# Altium schematic symbol library JUMPER_2PIN.SchLib: 1 symbol
Pins are listed as number, name and electrical type; pins without a type are passive.

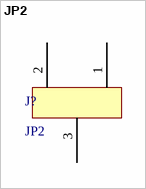
[diagram p0: symbol JP2]

## JP2
designator J?
footprint JP3 (Jumper 3)
pins: 1, 2, 3